# Altium footprint library BTS7960.PcbLib: 1 footprints
Each footprint in its own frame and in the unit in brackets; x right, y up, seen from the top. Pads: shape width x height; smd on the part's side, far side on the other; paste and mask are expansions set on the pad; w line width, h text height; cw(c..) or ccw(c..) is an arc to the next point about the centre after c.
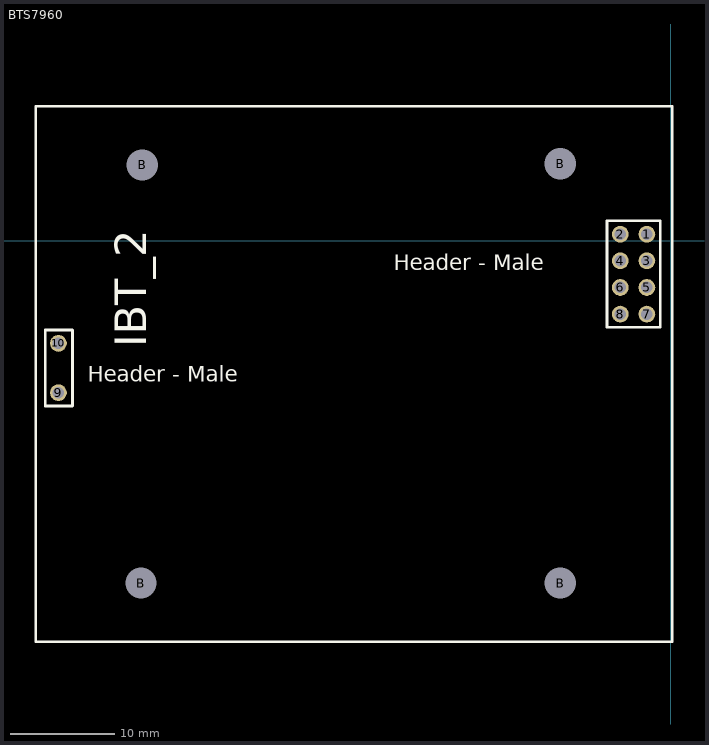
[diagram p0: the footprint, top view; thin cyan lines are the x and y axes]

## BTS7960 [mm]
pads (14):
  round 1.6 hole 1.1: 1(-2.286,0.635) 2(-4.826,0.635) 3(-2.286,-1.905) 4(-4.826,-1.905) 5(-2.286,-4.445) 6(-4.826,-4.445) 7(-2.286,-6.985) 8(-4.826,-6.985) 9(-58.42,-14.478) 10(-58.42,-9.779)
  round 1.524 hole 3: B(-50.546,-32.639) B(-50.419,7.239) B(-10.541,-32.639) B(-10.541,7.366)
Top Overlay:
  lines w0.254: -60.579,-38.227 -60.579,-15.113 -60.579,-8.255 -60.579,12.827 0.127,12.827 0.127,-27.178 0.127,-38.227 -60.579,-38.227 ; -59.69,-15.748 -59.69,-8.509 -57.087,-8.509 -57.087,-15.748 -59.69,-15.748 ; -6.096,-8.255 -6.096,1.905 -1.016,1.905 -1.016,-8.255 -4.826,-8.255 -6.096,-8.255
  text "Header - Male" at -26.416,-2.794 h1.5
  text "Header - Male" at -55.626,-13.462 h1.5
  text "IBT_2" at -50.03,-10.16 h3
3D body "BTS7960 43A HIGH POWER H BRIDGE MODULE.STEP": height 42.4, standoff 0, extent -56.658,-38.2 -6.858,12.8
3D body "User Library-2_54mm Male Header (4x2).STEP": height 8.84, standoff -2.7, extent -6.046,-8.255 -1.066,1.905
3D body "1x1 Male Pin Header.STEP": height 10.54, standoff -3, extent -59.69,-11.029 -57.145,-8.529
3D body "1x1 Male Pin Header.STEP": height 10.54, standoff -3, extent -59.69,-15.728 -57.145,-13.228